# Altium footprint library PcbLib_soldeerbout.PcbLib: 28 footprints (part 2 of 2)
Each footprint in its own frame and in the unit in brackets; x right, y up, seen from the top. Pads: shape width x height; smd on the part's side, far side on the other; paste and mask are expansions set on the pad; w line width, h text height; cw(c..) or ccw(c..) is an arc to the next point about the centre after c.
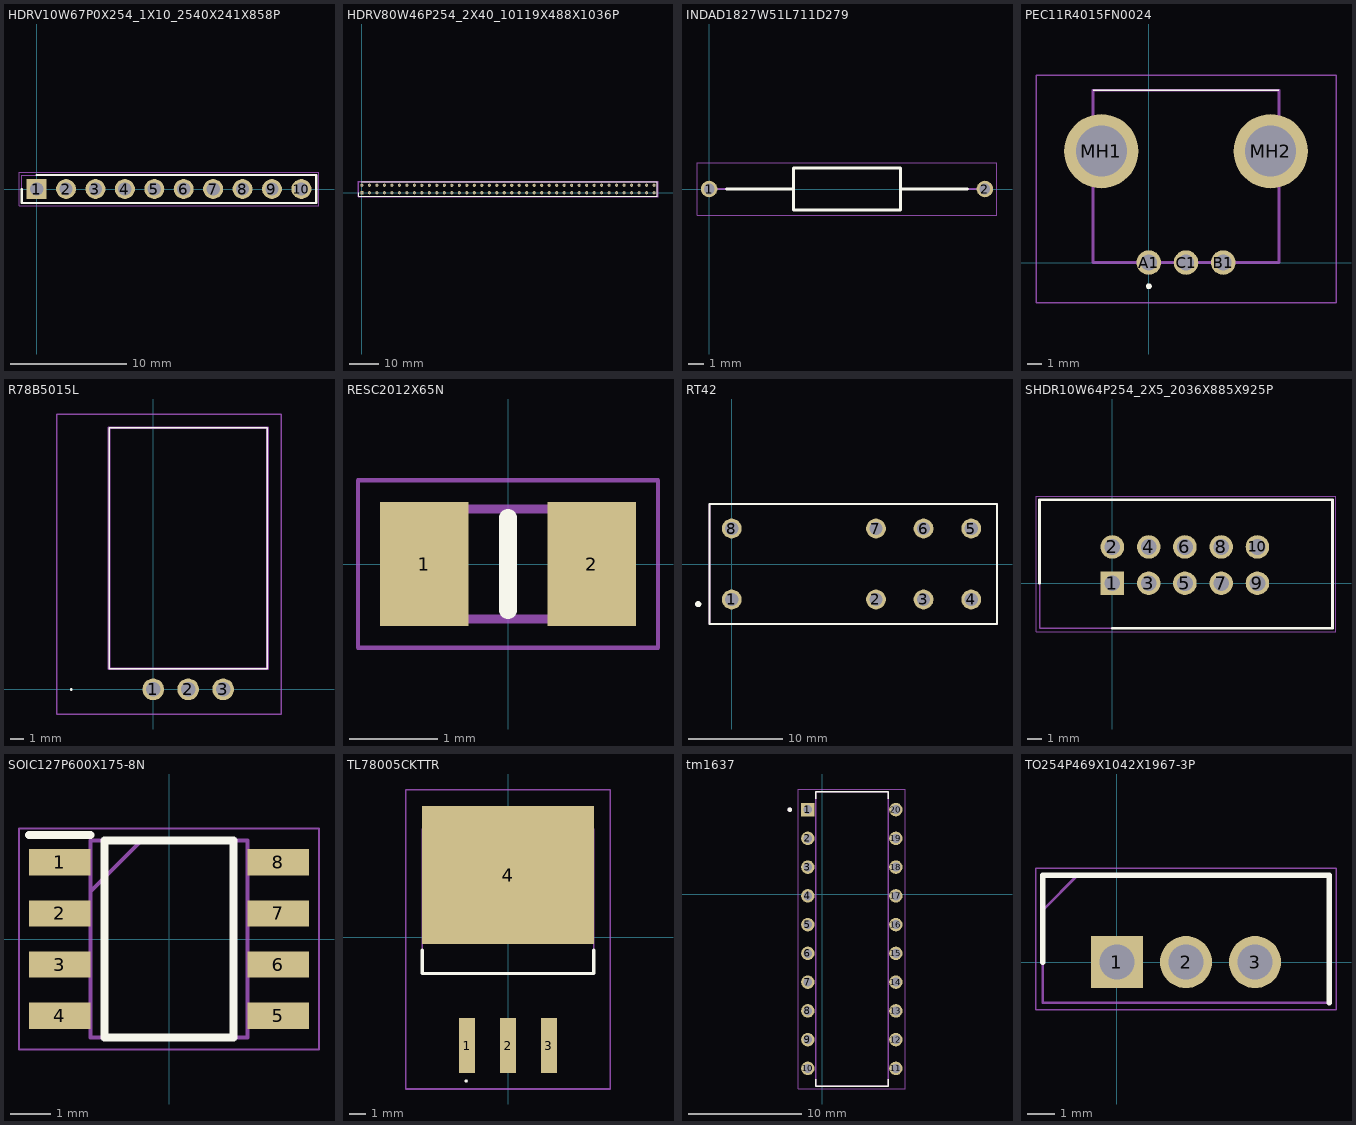
[diagram p1: the footprints below, top view; thin cyan lines are the x and y axes]

## HDRV10W67P0X254_1X10_2540X241X858P [mm]
pads (10):
  rect 1.725x1.725 hole 1.15: 1(0,0)
  round 1.725 hole 1.15: 2(2.54,0) 3(5.08,0) 4(7.62,0) 5(10.16,0) 6(12.7,0) 7(15.24,0) 8(17.78,0) 9(20.32,0) 10(22.86,0)
Top Overlay:
  lines w0.2: -1.27,0 -1.27,-1.205 24.13,-1.205 24.13,1.205 0,1.205
Mechanical 13:
  lines w0.1: -1.27,-1.205 -1.27,1.205 24.13,1.205 24.13,-1.205 -1.27,-1.205
Mechanical 15:
  lines w0.05: -1.52,-1.455 -1.52,1.455 24.38,1.455 24.38,-1.455 -1.52,-1.455
3D body "10129378-910001BLF.stp": height 8.58, standoff -3.3, extent -1.27,-1.205 24.13,1.205

## HDRV80W46P254_2X40_10119X488X1036P [mm]
pads (80):
  rect 1.05x1.05 hole 0.65: 1(0,0)
  round 1.05 hole 0.65: 2(0,2.54) 3(2.54,0) 4(2.54,2.54) 5(5.08,0) 6(5.08,2.54) 7(7.62,0) 8(7.62,2.54) 9(10.16,0) 10(10.16,2.54) 11(12.7,0) 12(12.7,2.54) 13(15.24,0) 14(15.24,2.54) 15(17.78,0) 16(17.78,2.54) 17(20.32,0) 18(20.32,2.54) 19(22.86,0) 20(22.86,2.54) 21(25.4,0) 22(25.4,2.54) 23(27.94,0) 24(27.94,2.54) 25(30.48,0) 26(30.48,2.54) 27(33.02,0) 28(33.02,2.54) 29(35.56,0) 30(35.56,2.54) 31(38.1,0) 32(38.1,2.54) 33(40.64,0) 34(40.64,2.54) 35(43.18,0) 36(43.18,2.54) 37(45.72,0) 38(45.72,2.54) 39(48.26,0) 40(48.26,2.54) 41(50.8,0) 42(50.8,2.54) 43(53.34,0) 44(53.34,2.54) 45(55.88,0) 46(55.88,2.54) 47(58.42,0) 48(58.42,2.54) 49(60.96,0) 50(60.96,2.54) 51(63.5,0) 52(63.5,2.54) 53(66.04,0) 54(66.04,2.54) 55(68.58,0) 56(68.58,2.54) 57(71.12,0) 58(71.12,2.54) 59(73.66,0) 60(73.66,2.54) 61(76.2,0) 62(76.2,2.54) 63(78.74,0) 64(78.74,2.54) 65(81.28,0) 66(81.28,2.54) 67(83.82,0) 68(83.82,2.54) 69(86.36,0) 70(86.36,2.54) 71(88.9,0) 72(88.9,2.54) 73(91.44,0) 74(91.44,2.54) 75(93.98,0) 76(93.98,2.54) 77(96.52,0) 78(96.52,2.54) 79(99.06,0) 80(99.06,2.54)
Top Overlay:
  lines w0.2: -1.067,0 -1.067,-1.168 100.127,-1.168 100.127,3.709 0,3.709
Mechanical 13:
  lines w0.1: -1.067,-1.168 100.127,-1.168 100.127,3.709 -1.067,3.709 -1.067,-1.168
Mechanical 15:
  lines w0.05: -1.317,-1.418 100.377,-1.418 100.377,3.959 -1.317,3.959 -1.317,-1.418
3D body "4-103322-2.stp": height 10.37, standoff -3.17, extent -1.067,-1.168 100.127,3.708

## INDAD1827W51L711D279 [mm]
pads (2):
  round 1.1 hole 0.7: 1(0,0) 2(18.3,0)
Top Overlay:
  lines w0.2: 1.143,0 5.595,0 ; 12.705,0 17.145,0 ; 5.595,-1.395 5.595,1.395 12.705,1.395 12.705,-1.395 5.595,-1.395
Mechanical 13:
  lines w0.1: 0,0 5.595,0 ; 12.705,0 18.3,0 ; 5.595,-1.395 5.595,1.395 12.705,1.395 12.705,-1.395 5.595,-1.395
Mechanical 15:
  lines w0.05: -0.8,-1.745 -0.8,1.745 19.1,1.745 19.1,-1.745 -0.8,-1.745
3D body "78F100J-RC.stp": height 2.78, standoff -2.79, extent -0.253,-1.392 18.525,1.392

## PEC11R4015FN0024 [mm]
pads (5):
  round 1.65 hole 1.1: A1(0,0) B1(5,0) C1(2.5,0)
  round 5 hole 3.441: MH1(-3.2,7.5) MH2(8.2,7.5)
Top Overlay:
  lines w0.1: -3.75,11.6 8.75,11.6
  lines w0.2: 0,-1.7 cw(c0,-1.6) 0,-1.5 cw(c0,-1.6) 0,-1.7
Mechanical 13:
  lines w0.2: -3.75,0 8.75,0 8.75,11.6 -3.75,11.6 -3.75,0
Mechanical 15:
  lines w0.1: -7.6,-2.7 12.6,-2.7 12.6,12.6 -7.6,12.6 -7.6,-2.7
3D body "PEC11R-4015F-N0024.stp": height 22.1, standoff -5, extent -4.821,-0.449 9.821,11.6

## R78B5015L [mm]
pads (3):
  round 1.575 hole 1.05: 1(0,0) 2(2.54,0) 3(5.08,0)
Top Overlay:
  lines w0.1: -6,0 ccw(c-5.95,0) -5.9,0 ; -6,0 cw(c-5.95,0) -5.9,0 ; -6,0 ccw(c-5.95,0) -5.9,0 ; -3.21,1.5 -3.21,19 8.29,19 8.29,1.5 -3.21,1.5
Mechanical 13:
  lines w0.2: -3.21,1.5 -3.21,19 8.29,19 8.29,1.5 -3.21,1.5
Mechanical 15:
  lines w0.1: -7,-1.788 -7,20 9.29,20 9.29,-1.788 -7,-1.788
3D body "R-78B5.0-1.5L.stp": height 8.55, standoff -4.05, extent -3.22,-0.39 8.38,18.61

## RESC2012X65N [mm]
pads (2):
  rect 1x1.4 smd: 1(-0.95,0) 2(0.95,0)
Top Overlay:
  lines w0.2: 0,-0.525 0,0.525
Mechanical 13:
  lines w0.1: -1,-0.625 1,-0.625 1,0.625 -1,0.625 -1,-0.625
Mechanical 15:
  lines w0.05: -1.7,-0.95 1.7,-0.95 1.7,0.95 -1.7,0.95 -1.7,-0.95
3D body "ESR10EZPJ183.stp": height 0.65, standoff 0, extent -1,-0.625 1,0.625

## RT42 [mm]
pads (8):
  round 2.1 hole 1.4: 1(0,-3.75) 2(15.26,-3.75) 3(20.3,-3.75) 4(25.34,-3.75) 5(25.34,3.75) 6(20.3,3.75) 7(15.26,3.75) 8(0,3.75)
Top Overlay:
  circle w0.4: c-3.547,-4.246 r0.126
  lines w0.2: -2.35,-6.35 -2.35,6.35 28.067,6.35 28.067,-6.35 -2.35,-6.35
Mechanical 13:
  lines w0.2: -2.35,-6.35 -2.35,6.35 28.067,6.35 28.067,-6.35 -2.35,-6.35
3D body "RT424005.stp": height 15.86, standoff -2.94, extent -2.21,-6.35 26.79,6.35

## SHDR10W64P254_2X5_2036X885X925P [mm]
pads (10):
  rect 1.65x1.65 hole 1.1: 1(0,0)
  round 1.65 hole 1.1: 2(0,2.54) 3(2.54,0) 4(2.54,2.54) 5(5.08,0) 6(5.08,2.54) 7(7.62,0) 8(7.62,2.54) 9(10.16,0) 10(10.16,2.54)
Top Overlay:
  lines w0.2: -5.1,0 -5.1,5.845 15.41,5.845 15.41,-3.155 0,-3.155
Mechanical 13:
  lines w0.1: -5.1,-3.155 -5.1,5.845 15.41,5.845 15.41,-3.155 -5.1,-3.155
Mechanical 15:
  lines w0.05: -5.35,-3.405 -5.35,6.095 15.66,6.095 15.66,-3.405 -5.35,-3.405
3D body "61201021621.stp": height 9.25, standoff -3.15, extent -5.1,-3.155 15.26,5.695

## SOIC127P600X175-8N [mm]
pads (8):
  rect 1.525x0.65 smd: 1(-2.712,1.905) 2(-2.712,0.635) 3(-2.712,-0.635) 4(-2.712,-1.905) 5(2.712,-1.905) 6(2.712,-0.635) 7(2.712,0.635) 8(2.712,1.905)
Top Overlay:
  lines w0.2: -3.475,2.58 -1.95,2.58 ; -1.6,-2.45 1.6,-2.45 1.6,2.45 -1.6,2.45 -1.6,-2.45
Mechanical 13:
  lines w0.1: -1.95,1.18 -0.68,2.45 ; -1.95,-2.45 1.95,-2.45 1.95,2.45 -1.95,2.45 -1.95,-2.45
Mechanical 15:
  lines w0.05: -3.725,-2.75 3.725,-2.75 3.725,2.75 -3.725,2.75 -3.725,-2.75
3D body "NE555DR.stp": height 1.75, standoff 0, extent -3,-2.45 3,2.45

## TL78005CKTTR [mm]
pads (4):
  rect 1x3.4 smd: 1(-2.54,-6.745) 2(0,-6.745) 3(2.54,-6.745)
  rect 10.7x8.6 smd: 4(0,3.855)
Top Overlay:
  lines w0.1: -2.6,-9 ccw(c-2.6,-8.95) -2.6,-8.9 ccw(c-2.6,-8.95) -2.6,-9
  lines w0.2: -5.33,-0.8 -5.33,-2.27 5.33,-2.27 5.33,-0.8
Mechanical 13:
  lines w0.1: -5.33,-2.27 5.33,-2.27 5.33,6.745 -5.33,6.745 -5.33,-2.27
Mechanical 15:
  lines w0.1: -6.35,-9.445 6.35,-9.445 6.35,9.155 -6.35,9.155 -6.35,-9.445

## tm1637 [mm]
pads (20):
  rect 1.19x1.19 hole 0.79: 1(-1.263,7.472)
  round 1.19 hole 0.79: 2(-1.263,4.932) 3(-1.263,2.392) 4(-1.263,-0.148) 5(-1.263,-2.688) 6(-1.263,-5.228) 7(-1.263,-7.768) 8(-1.263,-10.308) 9(-1.263,-12.848) 10(-1.263,-15.388) 11(6.517,-15.388) 12(6.517,-12.848) 13(6.517,-10.308) 14(6.517,-7.768) 15(6.517,-5.228) 16(6.517,-2.688) 17(6.517,-0.148) 18(6.517,2.392) 19(6.517,4.932) 20(6.517,7.472)
Top Overlay:
  circle w0.2: c-2.858,7.472 r0.1
  lines w0.127: -0.573,-16.333 -0.573,-16.958 5.827,-16.958 5.827,-16.333 ; -0.573,8.417 -0.573,9.042 5.827,9.042 5.827,8.417
Mechanical 13:
  circle w0.2: c-2.858,7.472 r0.1
  lines w0.127: -0.573,-16.958 5.827,-16.958 5.827,9.042 -0.573,9.042 -0.573,-16.958
Mechanical 15:
  lines w0.05: -2.108,-17.208 -2.108,9.292 7.362,9.292 7.362,-17.208 -2.108,-17.208
3D body "step_temp.STEP": height 4.31, standoff -3.6, extent -1.403,-16.958 6.657,9.042

## TO254P469X1042X1967-3P [mm]
pads (3):
  rect 1.92x1.92 hole 1.28: 1(0,0)
  round 1.92 hole 1.28: 2(2.54,0) 3(5.08,0)
Top Overlay:
  lines w0.2: -2.73,0 -2.73,3.195 7.81,3.195 7.81,-1.495
Mechanical 13:
  lines w0.1: -2.73,1.925 -1.46,3.195 ; -2.73,-1.495 -2.73,3.195 7.81,3.195 7.81,-1.495 -2.73,-1.495
Mechanical 15:
  lines w0.05: -2.98,-1.745 -2.98,3.445 8.06,3.445 8.06,-1.745 -2.98,-1.745
3D body "IRF9Z34NPBF.stp": height 18.84, standoff -17.51, extent -2.668,-1.495 7.748,3.195